# EAGLE library part ID809 (library Deegou_IC)
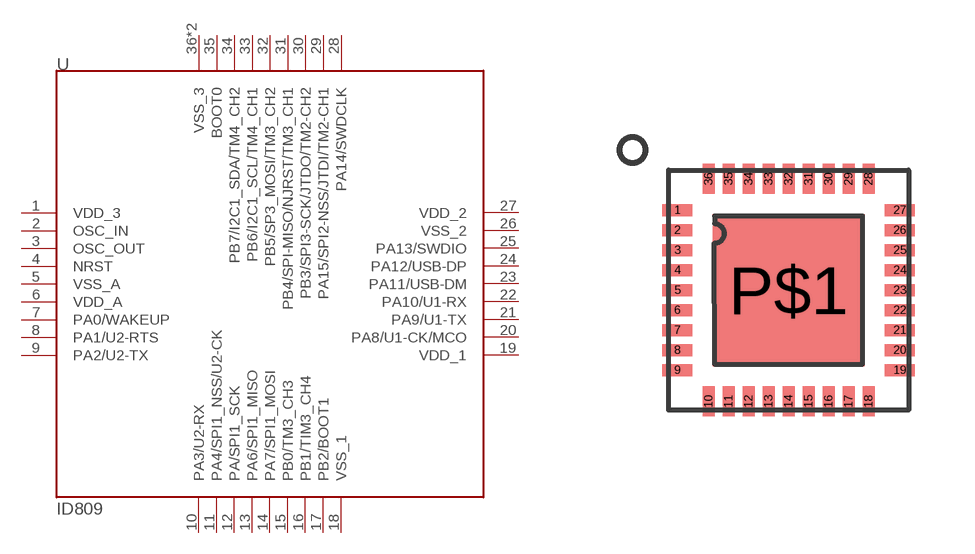
[diagram p61: symbol with the pads of VFQFPN36; footprint VFQFPN36]

Designator prefix U

## ID809  [VFQFPN36]
1  VDD_3
2  OSC_IN
3  OSC_OUT
4  NRST
5  VSS_A
6  VDD_A
7  PA0/WAKEUP
8  PA1/U2-RTS
9  PA2/U2-TX
10  PA3/U2-RX
11  PA4/SPI1_NSS/U2-CK
12  PA/SPI1_SCK
13  PA6/SPI1_MISO
14  PA7/SPI1_MOSI
15  PB0/TM3_CH3
16  PB1/TIM3_CH4
17  PB2/BOOT1
18  VSS_1
19  VDD_1
20  PA8/U1-CK/MCO
21  PA9/U1-TX
22  PA10/U1-RX
23  PA11/USB-DM
24  PA12/USB-DP
25  PA13/SWDIO
26  VSS_2
27  VDD_2
28  PA14/SWDCLK
29  PA15/SPI2-NSS/JTDI/TM2-CH1
30  PB3/SPI3-SCK/JTDO/TM2-CH2
31  PB4/SPI-MISO/NJRST/TM3_CH1
32  PB5/SP3_MOSI/TM3_CH2
33  PB6/I2C1_SCL/TM4_CH1
34  PB7/I2C1_SDA/TM4_CH2
35  BOOT0
36  VSS_3
P$1  VSS_3

## Footprint VFQFPN36 (pad centres in mm)
VFQFPN36 6 x 6 mm, 36-pin very thin 0.5 mm pitch quad flat no-lead package
smd 0.75 x 0.3: 1 -2.78,2; 2 -2.78,1.5; 3 -2.78,1; 4 -2.78,0.5; 5 -2.78,0; 6 -2.78,-0.5; 7 -2.78,-1; 8 -2.78,-1.5; 9 -2.78,-2; 19 2.78,-2; 20 2.78,-1.5; 21 2.78,-1; 22 2.78,-0.5; 23 2.78,0; 24 2.78,0.5; 25 2.78,1; 26 2.78,1.5; 27 2.78,2
smd 0.3 x 0.75: 10 -2,-2.78; 11 -1.5,-2.78; 12 -1,-2.78; 13 -0.5,-2.78; 14 0,-2.78; 15 0.5,-2.78; 16 1,-2.78; 17 1.5,-2.78; 18 2,-2.78; 28 2,2.78; 29 1.5,2.78; 30 1,2.78; 31 0.5,2.78; 32 0,2.78; 33 -0.5,2.78; 34 -1,2.78; 35 -1.5,2.78; 36 -2,2.78
smd 3.8 x 3.8: P$1 0,0